# Altium footprint library 0020-03_FFT2G1.PcbLib: 60 footprints (part 3 of 4)
Each footprint in its own frame and in the unit in brackets; x right, y up, seen from the top. Pads: shape width x height; smd on the part's side, far side on the other; paste and mask are expansions set on the pad; w line width, h text height; cw(c..) or ccw(c..) is an arc to the next point about the centre after c.
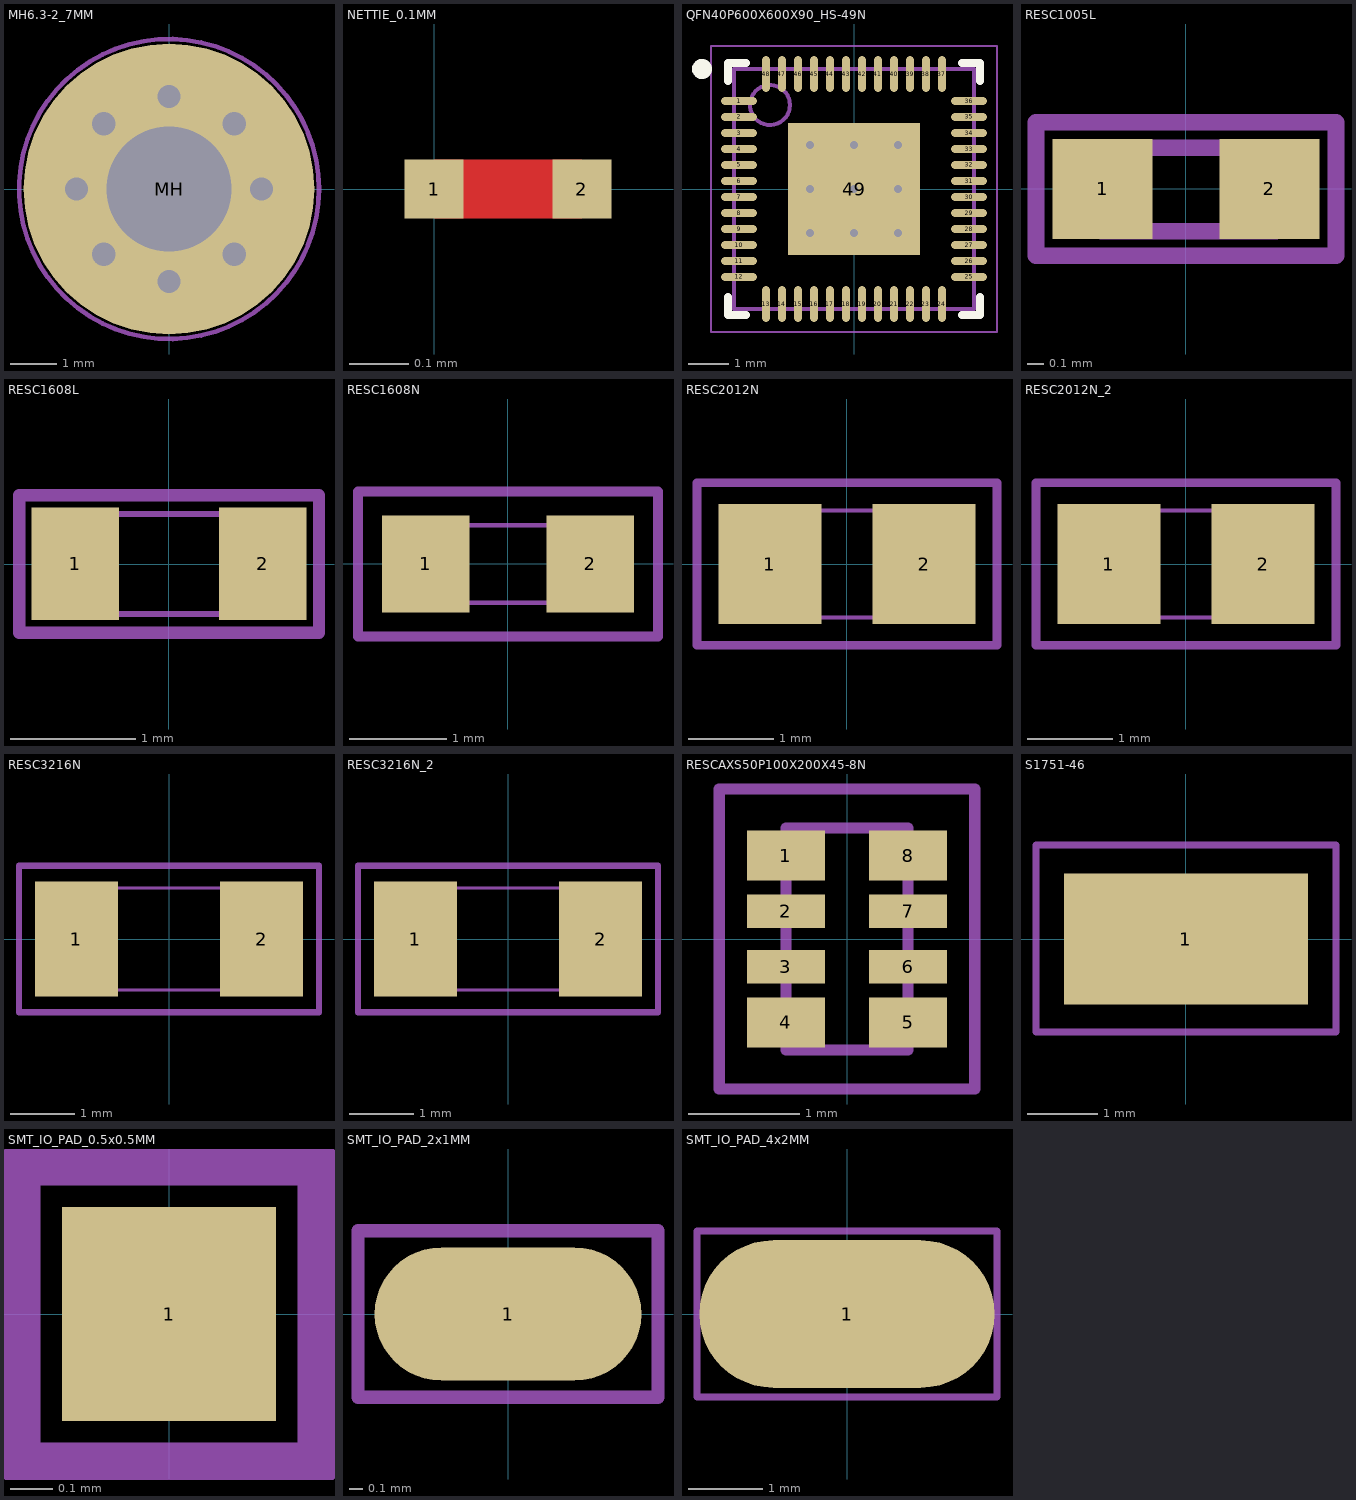
[diagram p2: the footprints below, top view; thin cyan lines are the x and y axes]

## MH6.3-2_7MM [mm] "MH6.3-2_7MM"
height 0.9
pads (1):
  round 6.3 hole 2.7: MH(0,0)
via -1.414,1.414 diameter 1 hole 0.5
via -2,0 diameter 1 hole 0.5
via -1.414,-1.414 diameter 1 hole 0.5
via 0,-2 diameter 1 hole 0.5
via 1.414,-1.414 diameter 1 hole 0.5
via 2,0 diameter 1 hole 0.5
via 1.414,1.414 diameter 1 hole 0.5
via 0,2 diameter 1 hole 0.5
Top 3D Body:
  circle w0.1: c0,0 r2.5
Top Courtyard:
  circle w0.1: c0,0 r3.25
3D body: height 0.5, standoff 0, extent -2.499,-2.499 2.499,2.499

## NETTIE_0.1MM [mm] "NETTIE_0.1MM"
pads (2):
  rect 0.1x0.1 smd paste-0.1 mask-0.1: 1(0,0) 2(0.25,0)
Top Layer:
  rectangle: 0,-0.05 0.25,0.05
3D body: height 0, standoff 0, extent -0.05,-0.05 0.3,0.05

## PCBNo_SILK [mm] "PCB number on silkscreen layer"
height 1.55
Top Overlay:
  text ".Comment" at 0,0 h2
3D body: height 0, standoff 0, extent -0.05,-0.05 3.75,1.15

## QFN40P600X600X90_HS-49N [mm]
pads (49):
  oval 0.9x0.2 smd: 1(-2.875,2.2) 2(-2.875,1.8) 3(-2.875,1.4) 4(-2.875,1) 5(-2.875,0.6) 6(-2.875,0.2) 7(-2.875,-0.2) 8(-2.875,-0.6) 9(-2.875,-1) 10(-2.875,-1.4) 11(-2.875,-1.8) 12(-2.875,-2.2) 25(2.875,-2.2) 26(2.875,-1.8) 27(2.875,-1.4) 28(2.875,-1) 29(2.875,-0.6) 30(2.875,-0.2) 31(2.875,0.2) 32(2.875,0.6) 33(2.875,1) 34(2.875,1.4) 35(2.875,1.8) 36(2.875,2.2)
  oval 0.2x0.9 smd: 13(-2.2,-2.875) 14(-1.8,-2.875) 15(-1.4,-2.875) 16(-1,-2.875) 17(-0.6,-2.875) 18(-0.2,-2.875) 19(0.2,-2.875) 20(0.6,-2.875) 21(1,-2.875) 22(1.4,-2.875) 23(1.8,-2.875) 24(2.2,-2.875) 37(2.2,2.875) 38(1.8,2.875) 39(1.4,2.875) 40(1,2.875) 41(0.6,2.875) 42(0.2,2.875) 43(-0.2,2.875) 44(-0.6,2.875) 45(-1,2.875) 46(-1.4,2.875) 47(-1.8,2.875) 48(-2.2,2.875)
  rect 3.3x3.3 smd: 49(0,0)
via 1.1,-1.1 diameter 0.5 hole 0.2
via 0,-1.1 diameter 0.5 hole 0.2
via -1.1,-1.1 diameter 0.5 hole 0.2
via 1.1,0 diameter 0.5 hole 0.2
via 0,0 diameter 0.5 hole 0.2
via -1.1,0 diameter 0.5 hole 0.2
via 1.1,1.1 diameter 0.5 hole 0.2
via 0,1.1 diameter 0.5 hole 0.2
via -1.1,1.1 diameter 0.5 hole 0.2
Top Overlay:
  circle w0.25: c-3.8,3 r0.125
  lines w0.2: -3.15,-2.7 -3.15,-3.15 -2.7,-3.15 ; -3.15,2.7 -3.15,3.15 -2.7,3.15 ; 2.7,-3.15 3.15,-3.15 3.15,-2.7 ; 2.7,3.15 3.15,3.15 3.15,2.7
Top 3D Body:
  circle w0.1: c-2.1,2.1 r0.5
  lines w0.1: -3,-3 3,-3 3,3 -3,3 -3,-3
Top Courtyard:
  lines w0.05: -3.575,-3.575 3.575,-3.575 3.575,3.575 -3.575,3.575 -3.575,-3.575
  lines w0.1: -0.5,0 0.5,0 ; 0,-0.5 0,0.5
3D body "QFN40P600X600X90_HS-49N.step": height 0.9, standoff 0, extent -3.001,-3.001 3.001,3.001

## RESC1005L [mm] "Chip Resistor, Body 1.1x0.5mm, IPC High Density"
height 0.4
pads (2):
  rect 0.6x0.6 smd: 1(-0.5,0) 2(0.5,0)
Top Designator:
  text ".Designator" at -0.412,-0.154 h0.5
Top 3D Body:
  lines w0.1: -0.508,-0.254 -0.508,0.247 0.542,0.247 0.542,-0.254 -0.508,-0.254
Top Courtyard:
  lines w0.1: -0.9,-0.4 -0.9,0.4 0.9,0.4 0.9,-0.4 -0.9,-0.4
3D body "RESC0402.stp": height 0.4, standoff 0, extent -0.508,-0.254 0.542,0.247

## RESC1608L [mm] "Chip Resistor, Body 1.6x0.8mm, IPC High Density"
height 0.6
pads (2):
  rect 0.7x0.9 smd: 1(-0.75,0) 2(0.75,0)
Top Designator:
  text ".Designator" at -0.721,-0.323 h1
Top 3D Body:
  lines w0.05: -0.825,0.4 0.825,0.4 ; -0.825,0.4 -0.825,0.4 ; -0.825,0.4 -0.825,-0.4 0.825,-0.4 0.825,0.4 ; 0.825,0.4 0.825,0.4
Top Courtyard:
  lines w0.1: -1.2,-0.55 1.2,-0.55 1.2,0.55 -1.2,0.55 -1.2,-0.55
3D body "RESC0603.stp": height 0.6, standoff 0, extent -0.825,-0.4 0.825,0.4

## RESC1608N [mm] "Chip Resistor, Body 1.6x0.8mm, IPC Medium Density"
height 0.6
pads (2):
  rect 0.9x1 smd: 1(-0.85,0) 2(0.85,0)
Top Designator:
  text ".Designator" at -0.72,-0.329 h1
Top 3D Body:
  lines w0.05: -0.825,0.4 -0.825,-0.4 0.825,-0.4 0.825,0.4 ; -0.825,0.4 -0.825,0.4 ; -0.825,0.4 0.825,0.4 ; 0.825,0.4 0.825,0.4
Top Courtyard:
  lines w0.1: -1.55,-0.75 1.55,-0.75 1.55,0.75 -1.55,0.75 -1.55,-0.75
3D body "RESC0603.stp": height 0.6, standoff 0, extent -0.825,-0.4 0.825,0.4

## RESC2012N [mm] "Chip Resistor, Body 2.0x1.3mm, IPC Medium Density"
height 0.65
pads (2):
  rect 1.2x1.4 smd: 1(-0.9,0) 2(0.9,0)
Top Designator:
  text ".Designator" at -0.762,-0.254 h1
Bottom 3D Body:
  lines w0.05: -1.025,-0.625 1.025,-0.625 1.025,0.625 -1.025,0.625 -1.025,-0.625
Bottom Courtyard:
  lines w0.1: -1.75,-0.95 -1.75,0.95 1.75,0.95 1.75,-0.95 -1.75,-0.95
3D body "RESC0805.stp": height 0.6, standoff 0, extent -1.025,-0.625 1.025,0.625

## RESC2012N_2 [mm]
pads (2):
  rect 1.2x1.4 smd: 1(-0.9,0) 2(0.9,0)
Top Designator:
  text ".Designator" at -0.889,-0.254 h1
Top 3D Body:
  lines w0.05: -1.025,-0.625 -1.025,0.625 1.025,0.625 1.025,-0.625 -1.025,-0.625
Top Courtyard:
  lines w0.1: -1.75,-0.95 1.75,-0.95 1.75,0.95 -1.75,0.95 -1.75,-0.95
3D body "RESC0805.stp": height 0.6, standoff 0, extent -1.025,-0.625 1.025,0.625

## RESC3216N [mm] "Chip Resistor, Body 3.2x1.6mm, IPC Medium Density"
height 0.71
pads (2):
  rect 1.3x1.8 smd: 1(-1.45,0) 2(1.45,0)
Top Designator:
  text ".Designator" at -1.524,-0.254 h1
Top 3D Body:
  lines w0.05: -1.625,-0.8 1.625,-0.8 1.625,0.8 -1.625,0.8 -1.625,-0.8
Top Courtyard:
  lines w0.1: -2.35,-1.15 -2.35,1.15 2.35,1.15 2.35,-1.15 -2.35,-1.15
3D body "RESC1206.stp": height 0.7, standoff 0, extent -1.625,-0.8 1.625,0.8

## RESC3216N_2 [mm]
pads (2):
  rect 1.3x1.8 smd: 1(-1.45,0) 2(1.45,0)
Top Designator:
  text ".Designator" at -1.27,-0.254 h1
Top 3D Body:
  lines w0.05: -1.625,-0.8 -1.625,0.8 1.625,0.8 1.625,-0.8 -1.625,-0.8
Top Courtyard:
  lines w0.1: -2.35,-1.15 2.35,-1.15 2.35,1.15 -2.35,1.15 -2.35,-1.15
3D body "RESC1206.stp": height 0.7, standoff 0, extent -1.625,-0.8 1.625,0.8

## RESCAXS50P100X200X45-8N [mm]
pads (8):
  rect 0.7x0.45 smd: 1(-0.55,0.75) 4(-0.55,-0.75) 5(0.55,-0.75) 8(0.55,0.75)
  rect 0.7x0.3 smd: 2(-0.55,0.25) 3(-0.55,-0.25) 6(0.55,-0.25) 7(0.55,0.25)
Top Designator:
  text ".Designator" at 0.25,-0.875 h1
Top 3D Body:
  lines w0.1: -0.55,-1 -0.55,1 0.55,1 0.55,-1 -0.55,-1
Top Courtyard:
  lines w0.1: -1.15,-1.35 -1.15,1.35 1.15,1.35 1.15,-1.35 -1.15,-1.35
3D body "RESCAXS50P100X200X45-8.STEP": height 0.35, standoff 0, extent -0.55,-1 0.55,1

## S1751-46 [mm] "S1751-46"
pads (1):
  rect 3.45x1.85 smd: 1(0,0)
Top 3D Body:
  lines w0.1: -1.625,-0.817 -1.625,0.833 1.625,0.833 1.625,-0.817 -1.625,-0.817
Top Courtyard:
  lines w0.1: -2.125,-1.317 -2.125,1.333 2.125,1.333 2.125,-1.317 -2.125,-1.317
3D body "s1751-46.stp": height 2.05, standoff 0, extent -1.625,-0.817 1.625,0.833

## SMT_IO_PAD_0.5x0.5MM [mm] "Square SMT_IO_PAD_0.5x0.5MM"
pads (1):
  rect 0.5x0.5 smd: 1(0,0)
Top Courtyard:
  lines w0.1: -0.35,-0.35 0.35,-0.35 0.35,0.35 -0.35,0.35 -0.35,-0.35
3D body: height 0.1, standoff 0, extent -0.15,-0.15 0.15,0.15

## SMT_IO_PAD_2x1MM [mm] "SMT_IO_PAD_2x1MM"
height 0.9
pads (1):
  oval 2x1 smd: 1(0,0)
Top Designator:
  text ".Comment" at -0.971,-0.195 h0.7
Top Courtyard:
  lines w0.1: -1.125,-0.625 1.125,-0.625 1.125,0.625 -1.125,0.625 -1.125,-0.625
3D body: height 0.5, standoff 0, extent -1,-0.5 1,0.5

## SMT_IO_PAD_4x2MM [mm] "SMT_IO_PAD_4x2MM"
height 0.9
pads (1):
  oval 4x2 smd: 1(0,0)
Top Designator:
  text ".Comment" at -0.971,-0.195 h0.7
Top Courtyard:
  lines w0.1: -2.032,-1.125 2.032,-1.125 2.032,1.125 -2.032,1.125 -2.032,-1.125
3D body: height 0.5, standoff 0, extent -1.975,-1 2,1